# Altium schematic symbol library FSM2JSMASTR.SchLib: 1 symbol
Pins are listed as number, name and electrical type; pins without a type are passive.

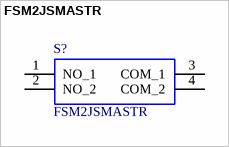
[diagram p0: symbol FSM2JSMASTR]

## FSM2JSMASTR
designator S?
SMT Sealed,Tact,160gf; Manufacturer_Name: TE Connectivity; Geometry.Height: 4mm; Manufacturer_Part_Number: FSM2JSMASTR; RS Part Number: 1639313; RS Price/Stock: http://uk.rs-online.com/web/p/products/1639313; Arrow Part Number: FSM2JSMASTR; Arrow Price/Stock: https://www.arrow.com/en/products/fsm2jsmastr/te-connectivity; Datasheet Link: http://www.te.com/commerce/DocumentDelivery/DDEController?Action=showdoc&DocId=Customer+Drawing%7F1977223%7FA5%7Fpdf%7FEnglish%7FENG_CD_1977223_A5.pdf%7F1977223-4
footprint FSM2JSMASTR
pins: 1 NO_1, 2 NO_2, 3 COM_1, 4 COM_2